# Altium footprint library SOM.PcbLib: 1 footprints
Each footprint in its own frame and in the unit in brackets; x right, y up, seen from the top. Pads: shape width x height; smd on the part's side, far side on the other; paste and mask are expansions set on the pad; w line width, h text height; cw(c..) or ccw(c..) is an arc to the next point about the centre after c.
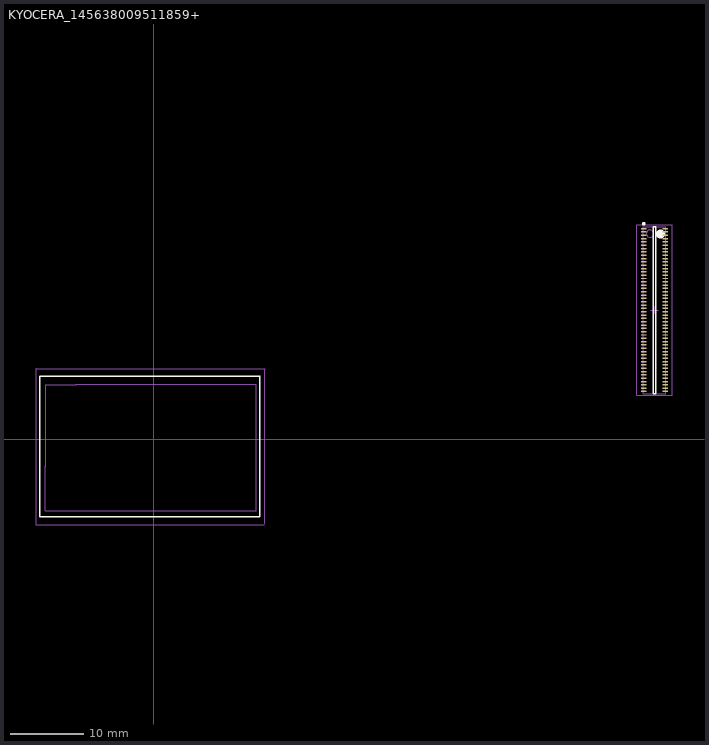
[diagram p0: the footprint, top view; thin cyan lines are the x and y axes]

## KYOCERA_145638009511859+ [mm]
pads (100):
  rect 0.7x0.2 smd: 1(66.38,28.54) 2(66.38,28.09) 3(66.38,27.64) 4(66.38,27.19) 5(66.38,26.74) 6(66.38,26.29) 7(66.38,25.84) 8(66.38,25.39) 9(66.38,24.94) 10(66.38,24.49) 11(66.38,24.04) 12(66.38,23.59) 13(66.38,23.14) 14(66.38,22.69) 15(66.38,22.24) 16(66.38,21.79) 17(66.38,21.34) 18(66.38,20.89) 19(66.38,20.44) 20(66.38,19.99) 21(66.38,19.54) 22(66.38,19.09) 23(66.38,18.64) 24(66.38,18.19) 25(66.38,17.74) 26(66.38,17.29) 27(66.38,16.84) 28(66.38,16.39) 29(66.38,15.94) 30(66.38,15.49) 31(66.38,15.04) 32(66.38,14.59) 33(66.38,14.14) 34(66.38,13.69) 35(66.38,13.24) 36(66.38,12.79) 37(66.38,12.34) 38(66.38,11.89) 39(66.38,11.44) 40(66.38,10.99) 41(66.38,10.54) 42(66.38,10.09) 43(66.38,9.64) 44(66.38,9.19) 45(66.38,8.74) 46(66.38,8.29) 47(66.38,7.84) 48(66.38,7.39) 49(66.38,6.94) 50(66.38,6.49) 51(69.28,6.49) 52(69.28,6.94) 53(69.28,7.39) 54(69.28,7.84) 55(69.28,8.29) 56(69.28,8.74) 57(69.28,9.19) 58(69.28,9.64) 59(69.28,10.09) 60(69.28,10.54) 61(69.28,10.99) 62(69.28,11.44) 63(69.28,11.89) 64(69.28,12.34) 65(69.28,12.79) 66(69.28,13.24) 67(69.28,13.69) 68(69.28,14.14) 69(69.28,14.59) 70(69.28,15.04) 71(69.28,15.49) 72(69.28,15.94) 73(69.28,16.39) 74(69.28,16.84) 75(69.28,17.29) 76(69.28,17.74) 77(69.28,18.19) 78(69.28,18.64) 79(69.28,19.09) 80(69.28,19.54) 81(69.28,19.99) 82(69.28,20.44) 83(69.28,20.89) 84(69.28,21.34) 85(69.28,21.79) 86(69.28,22.24) 87(69.28,22.69) 88(69.28,23.14) 89(69.28,23.59) 90(69.28,24.04) 91(69.28,24.49) 92(69.28,24.94) 93(69.28,25.39) 94(69.28,25.84) 95(69.28,26.29) 96(69.28,26.74) 97(69.28,27.19) 98(69.28,27.64) 99(69.28,28.09) 100(69.28,28.54)
Top Overlay:
  circle w0.6: c68.655,27.815 r0.3
  circle w0.25: c66.38,29.19 r0.125
  lines w0.2: -15.4,5.2 -15.4,8.55 -10,8.55 10.2,8.55 14.35,8.55 ; -15.4,5.45 -15.4,-3.25 -15.4,-10.5 14.4,-10.5 14.4,6.65 14.3,6.65 ; 14.4,5.3 14.4,8.65 ; 67.655,6.215 68.005,6.215 68.005,28.815 67.655,28.815 67.655,6.215
Mechanical 13:
  circle w0.1: c67.24,27.865 r0.5
  lines w0.1: -14.65,-9.65 -14.65,-3.65 -14.6,-3.65 -14.6,7.4 -10.5,7.4 -10.5,7.45 10.7,7.45 10.7,7.5 13.9,7.5 13.9,-9.65 -14.65,-9.65 ; 66.29,6.215 69.37,6.215 69.37,28.815 66.29,28.815 66.29,6.215
Mechanical 15:
  lines w0.1: -15.95,-11.55 15,-11.55 ; -15.9,-11.6 -15.9,9.65 ; -15.9,9.55 15.1,9.55 ; 15.05,-11.45 15.05,9.5 ; 67.33,17.515 68.33,17.515 ; 67.83,17.015 67.83,18.015 ; 65.43,5.965 70.23,5.965 70.23,29.065 65.43,29.065 65.43,5.965
3D body: height 2.31, standoff -1.14, extent -13.9,-8.65 13.1,6.35
3D body: height 1.55, standoff 0.2, extent 66.29,6.215 69.37,28.815